# EAGLE library part LT3065EDDPBF (library linear-technology-jqi)
LT3065, 500 mA, low noise linear regulator
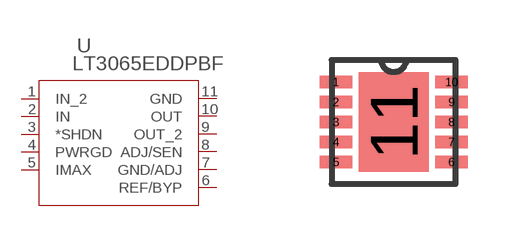
[diagram p2: symbol with the pads of DFN-10_DD; footprint DFN-10_DD]

Designator prefix U

## LT3065EDDPBF (MANUFACTURER_PART_NUMBER: lt3065edd#pbf; VENDOR: Linear Technology)  [DFN-10_DD]
1  IN_2  in
2  IN  in
3  *SHDN  pas
4  PWRGD  pwr
5  IMAX  pas
6  REF/BYP  pas
7  GND/ADJ
8  ADJ/SEN
9  OUT_2  out
10  OUT  out
11  GND  pwr

## Footprint DFN-10_DD (pad centres in mm)
smd 0.813 x 0.305: 1 -1.448,1; 2 -1.448,0.5; 3 -1.448,0; 4 -1.448,-0.5; 5 -1.448,-1; 6 1.448,-1; 7 1.448,-0.5; 8 1.448,0; 9 1.448,0.5; 10 1.448,1
smd 1.753 x 2.489: 11 0,0